# Altium footprint library ATmega162.PcbLib: 4 footprints
Each footprint in its own frame and in the unit in brackets; x right, y up, seen from the top. Pads: shape width x height; smd on the part's side, far side on the other; paste and mask are expansions set on the pad; w line width, h text height; cw(c..) or ccw(c..) is an arc to the next point about the centre after c.
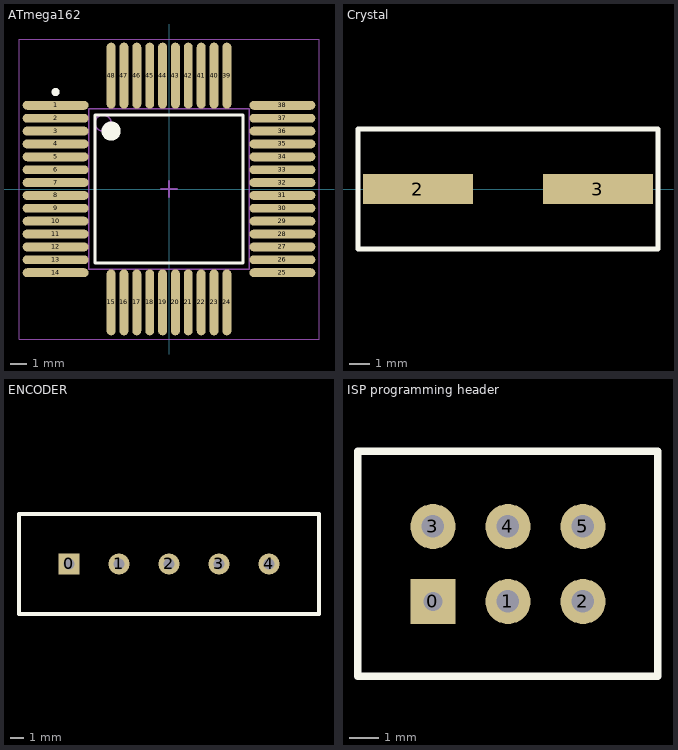
[diagram p0: the footprints below, top view; thin cyan lines are the x and y axes]

## ATmega162 [mm] "TQFP, 48-Leads, Body 10.00x10.00mm, Pitch 0.80mm, IPC Medium Density"
height 1.2
pads (48):
  oval 4.1x0.55 smd: 1(-7.05,5.2) 2(-7.05,4.4) 3(-7.05,3.6) 4(-7.05,2.8) 5(-7.05,2) 6(-7.05,1.2) 7(-7.05,0.4) 8(-7.05,-0.4) 9(-7.05,-1.2) 10(-7.05,-2) 11(-7.05,-2.8) 12(-7.05,-3.6) 13(-7.05,-4.4) 14(-7.05,-5.2) 25(7.05,-5.2) 26(7.05,-4.4) 27(7.05,-3.6) 28(7.05,-2.8) 29(7.05,-2) 30(7.05,-1.2) 31(7.05,-0.4) 32(7.05,0.4) 33(7.05,1.2) 34(7.05,2) 35(7.05,2.8) 36(7.05,3.6) 37(7.05,4.4) 38(7.05,5.2)
  oval 0.55x4.1 smd: 15(-3.6,-7.05) 16(-2.8,-7.05) 17(-2,-7.05) 18(-1.2,-7.05) 19(-0.4,-7.05) 20(0.4,-7.05) 21(1.2,-7.05) 22(2,-7.05) 23(2.8,-7.05) 24(3.6,-7.05) 39(3.6,7.05) 40(2.8,7.05) 41(2,7.05) 42(1.2,7.05) 43(0.4,7.05) 44(-0.4,7.05) 45(-1.2,7.05) 46(-2,7.05) 47(-2.8,7.05) 48(-3.6,7.05)
Top Overlay:
  circle w0.6: c-3.6,3.6 r0.3
  circle w0.25: c-7.05,6.025 r0.125
  lines w0.2: -4.6,-4.6 4.6,-4.6 4.6,4.6 -4.6,4.6 -4.6,-4.6
Mechanical 13:
  circle w0.1: c-4.1,4.1 r0.5
  lines w0.1: -5,-5 5,-5 5,5 -5,5 -5,-5
Mechanical 15:
  lines w0.05: -9.325,-9.325 9.325,-9.325 9.325,9.325 -9.325,9.325 -9.325,-9.325
  lines w0.1: -0.5,0 0.5,0 ; 0,-0.5 0,0.5
3D body: height 1.2, standoff 0.45, extent -5,-5 5,5

## Crystal [mm]
pads (2):
  rect 5.5x1.5 smd: 2(-15,0) 3(-6,0)
Top Overlay:
  lines w0.254: -18,-3 -18,0 -18,3 -3,3 -3,-3 -18,-3

## ENCODER [mil]
pads (5):
  rect 60x60 hole 30: 0(-5527.56,-566.93)
  round 60 hole 30: 1(-5385.83,-566.93) 2(-5244.09,-566.93) 3(-5102.36,-566.93) 4(-4960.63,-566.93)
Top Overlay:
  lines w10: -5669.29,-708.66 -5669.29,-566.93 -5669.29,-425.2 -4818.9,-425.2 -4818.9,-708.66 -5669.29,-708.66

## ISP programming header [mil]
pads (6):
  rect 60x60 hole 25.2: 0(-4800,-1300)
  round 60 hole 30: 1(-4700,-1300) 2(-4600,-1300) 3(-4800,-1200) 4(-4700,-1200) 5(-4600,-1200)
Top Overlay:
  lines w10: -4900,-1400 -4900,-1200 -4900,-1100 -4500,-1100 -4500,-1400 -4900,-1400